# Altium footprint library ESP32-C3-MINI-1U-N4.PcbLib: 1 footprints
Each footprint in its own frame and in the unit in brackets; x right, y up, seen from the top. Pads: shape width x height; smd on the part's side, far side on the other; paste and mask are expansions set on the pad; w line width, h text height; cw(c..) or ccw(c..) is an arc to the next point about the centre after c.
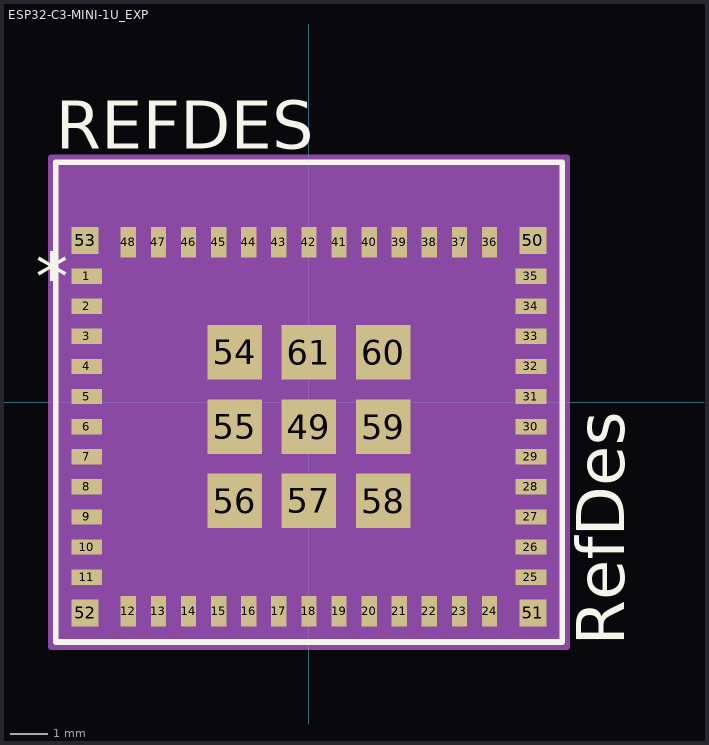
[diagram p0: the footprint, top view; thin cyan lines are the x and y axes]

## ESP32-C3-MINI-1U_EXP [mil]
pads (61):
  rect 32x16 smd paste+0 mask+0: 1(-232.28,131.89) 2(-232.28,100.39) 3(-232.28,68.9) 4(-232.28,37.4) 5(-232.28,5.91) 6(-232.28,-25.59) 7(-232.28,-57.09) 8(-232.28,-88.58) 9(-232.28,-120.08) 10(-232.28,-151.57) 11(-232.28,-183.07) 25(232.28,-183.07) 26(232.28,-151.57) 27(232.28,-120.08) 28(232.28,-88.58) 29(232.28,-57.09) 30(232.28,-25.59) 31(232.28,5.91) 32(232.28,37.4) 33(232.28,68.9) 34(232.28,100.39) 35(232.28,131.89)
  rect 16x32 smd paste+0 mask+0: 12(-188.98,-218.5) 13(-157.48,-218.5) 14(-125.98,-218.5) 15(-94.49,-218.5) 16(-62.99,-218.5) 17(-31.5,-218.5) 18(0,-218.5) 19(31.5,-218.5) 20(62.99,-218.5) 21(94.49,-218.5) 22(125.98,-218.5) 23(157.48,-218.5) 24(188.98,-218.5) 36(188.98,167.32) 37(157.48,167.32) 38(125.98,167.32) 39(94.49,167.32) 40(62.99,167.32) 41(31.5,167.32) 42(0,167.32) 43(-31.5,167.32) 44(-62.99,167.32) 45(-94.49,167.32) 46(-125.98,167.32) 47(-157.48,167.32) 48(-188.98,167.32)
  rect 57x57 smd paste+0 mask+0: 49(0,-25.59) 54(-77.76,52.17) 55(-77.76,-25.59) 56(-77.76,-103.35) 57(0,-103.35) 58(77.76,-103.35) 59(77.76,-25.59) 60(77.76,52.17) 61(0,52.17)
  rect 28x28 smd paste+0 mask+0: 50(234.25,169.29) 51(234.25,-220.47) 52(-234.25,-220.47) 53(-234.25,169.29)
Top Overlay:
  lines w6: -265,-251 -265,251 265,251 265,-251 -265,-251
  text "REFDES" at -265,265 h50
  text "RefDes" at 330,-255 h50
  text "*" at -285.78,106.89 h50
Mechanical 13:
  lines w1: -260,196 -210,246 ; -260,-246 -260,246 260,246 260,-246 -260,-246
  text "RefDes2" at 330,-255 h50
  text "*" at -203.78,106.89 h50
Mechanical 15:
  region: 270,256 -270,256 -270,-256 270,-256
  lines w6: -270,-256 270,-256 270,256 -270,256 -270,-256